# Altium footprint library JST_PHR_6_0.PcbLib: 1 footprints
Each footprint in its own frame and in the unit in brackets; x right, y up, seen from the top. Pads: shape width x height; smd on the part's side, far side on the other; paste and mask are expansions set on the pad; w line width, h text height; cw(c..) or ccw(c..) is an arc to the next point about the centre after c.
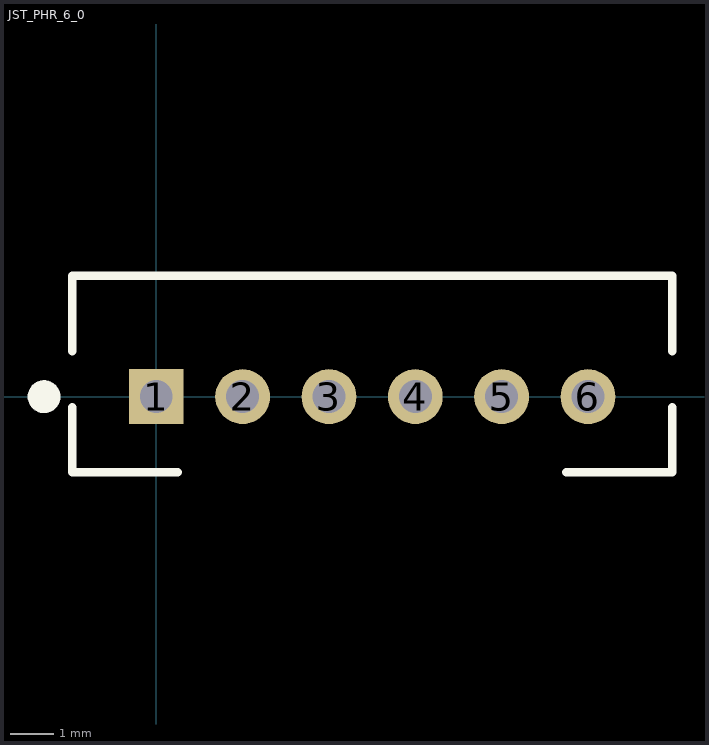
[diagram p0: the footprint, top view; thin cyan lines are the x and y axes]

## JST_PHR_6_0 [mil]
pads (6):
  rect 50x50 hole 30: 1(0,0)
  round 50 hole 30: 2(78.74,0) 3(157.48,0) 4(236.22,0) 5(314.96,0) 6(393.7,0)
Top Overlay:
  circle w15: c-102.36,0 r7.5
  lines w7.87: -76.77,-9.84 -76.77,-68.9 19.68,-68.9 ; -76.77,41.34 -76.77,110.24 470.47,110.24 470.47,41.34 ; 374.01,-68.9 470.47,-68.9 470.47,-9.85
3D body "JST_PH_1x06_P2.00mm.step": height 236.22, standoff -133.86, extent -76.78,-68.9 470.47,110.23